# EAGLE library part GY-BMP280 (library GY-BMP280)
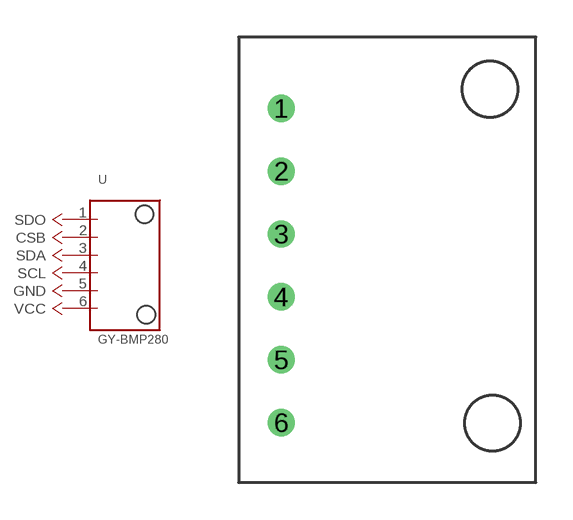
[diagram p0: symbol with the pads of GY-BMP280; footprint GY-BMP280]

Designator prefix -

## GY-BMP280  [GY-BMP280]
1  SDO
2  CSB
3  SDA
4  SCL
5  GND
6  VCC  pwr

## Footprint GY-BMP280 (pad centres in mm)
GY-BMP280
drill 0.6: 1 -17.78,7.62; 2 -17.78,5.08; 3 -17.78,2.54; 4 -17.78,0; 5 -17.78,-2.54; 6 -17.78,-5.08